# EAGLE library part LM22674 (library _RoweTel)
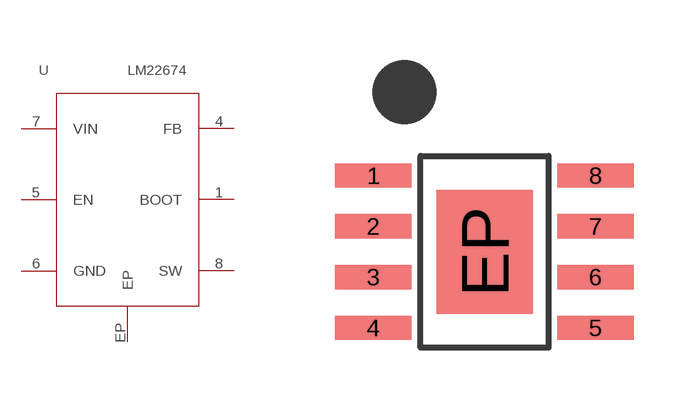
[diagram p33: symbol with the pads of PSOP-8; footprint PSOP-8]

Designator prefix U

## LM22674  [PSOP-8]
1  BOOT
4  FB
5  EN
6  GND
7  VIN
8  SW
EP  EP

## Footprint PSOP-8 (pad centres in mm)
smd 1.91 x 0.61: 1 -2.78,1.905; 2 -2.78,0.635; 3 -2.78,-0.635; 4 -2.78,-1.905; 5 2.78,-1.905; 6 2.78,-0.635; 7 2.78,0.635; 8 2.78,1.905
smd 2.41 x 3.1: EP 0,0